# Altium schematic symbol library SCH - SWITCHES - SS-3235S-L1.SchLib: 2 symbols
Pins are listed as number, name and electrical type; pins without a type are passive.

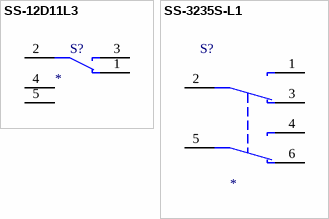
[diagram p0: symbols SS-12D11L3 to SS-3235S-L1]

## SS-12D11L3
designator S?
pins: 1 NC1, 2 COM1, 3 NO1, 4 S1, 5 S2

## SS-3235S-L1
designator S?
pins: 1 NO1, 2 COM1, 3 NC1, 4 NO2, 5 COM2, 6 NC2